# EAGLE library part LZ4-RGBW (library Protofusion)
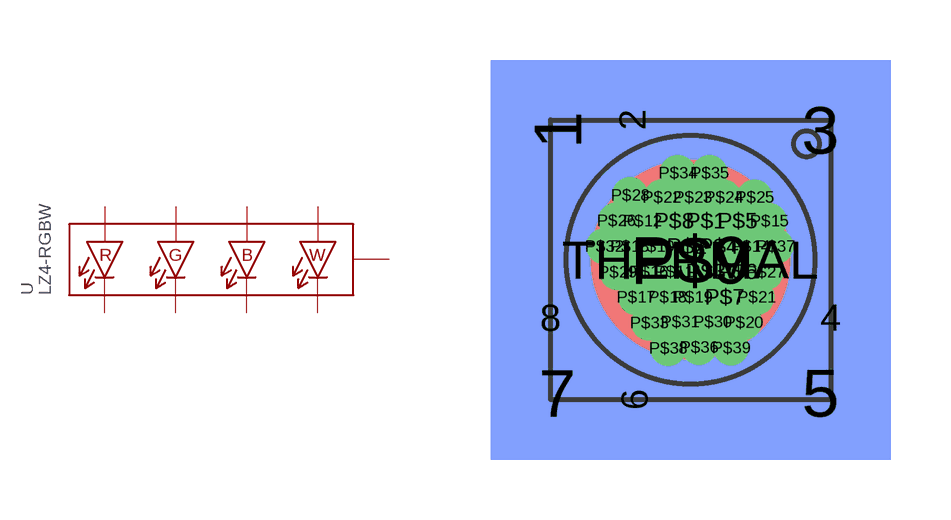
[diagram p8: symbol with the pads of LZ4; footprint LZ4]

Designator prefix -

## LZ4-RGBW  [LZ4]
1  W+
2  W-
3  R+
4  R-
5  G+
6  G-
7  B+
8  B-
P$1  THERMAL
P$2  THERMAL
P$3  THERMAL
P$4  THERMAL
P$5  THERMAL
P$6  THERMAL
P$7  THERMAL
P$8  THERMAL
P$9  THERMAL
P$10  THERMAL
P$11  THERMAL
P$12  THERMAL
P$13  THERMAL
P$14  THERMAL
P$15  THERMAL
P$16  THERMAL
P$17  THERMAL
P$18  THERMAL
P$19  THERMAL
P$20  THERMAL
P$21  THERMAL
P$22  THERMAL
P$23  THERMAL
P$24  THERMAL
P$25  THERMAL
P$26  THERMAL
P$27  THERMAL
P$28  THERMAL
P$29  THERMAL
P$30  THERMAL
P$31  THERMAL
P$32  THERMAL
P$33  THERMAL
P$34  THERMAL
P$35  THERMAL
P$36  THERMAL
P$37  THERMAL
P$38  THERMAL
P$39  THERMAL
THERMAL  THERMAL

## LZ4-RGBWLZ4-RGBW-FLAT  [LZ4]
1  G+
2  B+
3  R+
4  W+
5  W-
6  R-
7  B-
8  G-
P$1  THERMAL
P$2  THERMAL
P$3  THERMAL
P$4  THERMAL
P$5  THERMAL
P$6  THERMAL
P$7  THERMAL
P$8  THERMAL
P$9  THERMAL
P$10  THERMAL
P$11  THERMAL
P$12  THERMAL
P$13  THERMAL
P$14  THERMAL
P$15  THERMAL
P$16  THERMAL
P$17  THERMAL
P$18  THERMAL
P$19  THERMAL
P$20  THERMAL
P$21  THERMAL
P$22  THERMAL
P$23  THERMAL
P$24  THERMAL
P$25  THERMAL
P$26  THERMAL
P$27  THERMAL
P$28  THERMAL
P$29  THERMAL
P$30  THERMAL
P$31  THERMAL
P$32  THERMAL
P$33  THERMAL
P$34  THERMAL
P$35  THERMAL
P$36  THERMAL
P$37  THERMAL
P$38  THERMAL
P$39  THERMAL
THERMAL  THERMAL

## Footprint LZ4 (pad centres in mm)
smd 1.84 x 2: 1 -2.916,3.229
smd 0.96 x 1.5: 2 -1.036,3.479; 6 -0.986,-3.521
smd 2 x 2: 3 3.664,3.229
smd 1.5 x 0.96: 4 3.914,-1.471; 8 -3.086,-1.471
smd 2 x 1.84: 5 3.664,-3.351
smd 1.84 x 1.84: 7 -2.916,-3.351
drill 0.381: P$1 0.794,0.953; P$2 0.318,0.318; P$3 0.794,-0.318; P$4 1.111,0.318; P$5 1.587,0.953; P$6 1.587,-0.318; P$7 1.27,-0.953; P$8 0,0.953; P$10 -0.476,0.318; P$11 0,-0.318; P$12 -0.794,0.953; P$13 -1.111,0.318; P$14 1.905,0.318; P$15 2.381,0.953; P$16 -0.635,-0.318; P$17 -0.953,-0.953; P$18 -0.159,-0.953; P$19 0.476,-0.953; P$20 1.746,-1.587; P$21 2.064,-0.953; P$22 -0.308,1.546; P$23 0.467,1.546; P$24 1.241,1.546; P$25 2.016,1.546; P$26 -1.445,0.962; P$27 2.286,-0.327; P$28 -1.095,1.597; P$29 -1.413,-0.327; P$30 0.962,-1.572; P$31 0.149,-1.572; P$32 -1.746,0.318; P$33 -0.619,-1.597; P$34 0.095,2.153; P$35 0.889,2.153; P$36 0.625,-2.207; P$37 2.54,0.318; P$38 -0.143,-2.232; P$39 1.429,-2.223
smd 10 x 10 bottom: P$9 0.414,-0.021
smd 5 x 5: THERMAL 0.414,-0.021